# Altium schematic symbol library 3DP_REV2.SchLib: 1 symbol
Pins are listed as number, name and electrical type; pins without a type are passive.

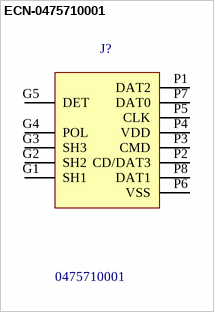
[diagram p0: symbol ECN-0475710001]

## ECN-0475710001
designator J?, comment value 0475710001  (hidden comment: CONN MICRO SD CARD PUSH-PULL R/A)
Internal Part Number: ECN-0475710001; Manufacturer: Molex; Vendor Part Number: 114-00841-68-1-ND; 1st Auxiliary Field: 9 (8 + 1); 2nd Auxiliary Field: Push In, Pull Out; 3rd Auxiliary Field: Surface Mount, Right Angle; 4th Auxiliary Field: ROHS3 Compliant; Component Height (mm): 2.30mm; Vendor Name: Digi-Key; Manufacturer Part Number: 0475710001; Part Type: CONN MICRO SD CARD PUSH-PULL R/A; Temp Co: *
footprint MOLEX_0475710001
pins: G1 SH1, G2 SH2, G3 SH3, G4 POL, G5 DET, P1 DAT2, P2 CD/DAT3, P3 CMD, P4 VDD, P5 CLK, P6 VSS, P7 DAT0, P8 DAT1